# Altium schematic symbol library LM385BD-2.5.SchLib: 1 symbol
Pins are listed as number, name and electrical type; pins without a type are passive.

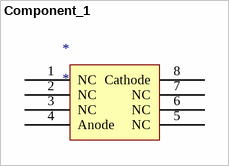
[diagram p0: symbol Component_1]

## Component_1
designator *
pins: 1 NC, 2 NC, 3 NC, 4 Anode, 5 NC, 6 NC, 7 NC, 8 Cathode